# EAGLE library part TFT (library OctoGames)
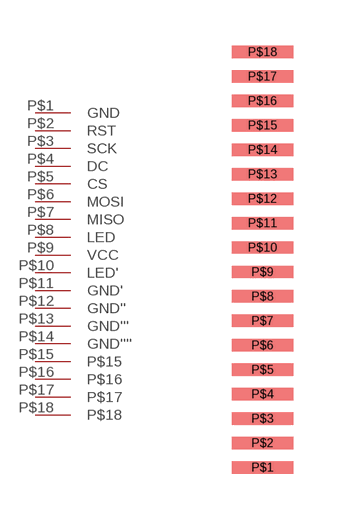
[diagram p3: symbol with the pads of TFT; footprint TFT]

Designator prefix TFT

## TFT  [TFT]
P$1  GND
P$2  RST
P$3  SCK
P$4  DC
P$5  CS
P$6  MOSI
P$7  MISO
P$8  LED
P$9  VCC
P$10  LED'
P$11  GND'
P$12  GND''
P$13  GND'''
P$14  GND''''
P$15  P$15
P$16  P$16
P$17  P$17
P$18  P$18

## Footprint TFT (pad centres in mm)
smd 2 x 0.406: P$1 -3.6,-2.8; P$2 -3.6,-2; P$3 -3.6,-1.2; P$4 -3.6,-0.4; P$5 -3.6,0.4; P$6 -3.6,1.2; P$7 -3.6,2; P$8 -3.6,2.8; P$9 -3.6,3.6; P$10 -3.6,4.4; P$11 -3.6,5.2; P$12 -3.6,6; P$13 -3.6,6.8; P$14 -3.6,7.6; P$15 -3.6,8.4; P$16 -3.6,9.2; P$17 -3.6,10; P$18 -3.6,10.8